# Altium footprint library RES_1M_0603.PcbLib: 1 footprints
Each footprint in its own frame and in the unit in brackets; x right, y up, seen from the top. Pads: shape width x height; smd on the part's side, far side on the other; paste and mask are expansions set on the pad; w line width, h text height; cw(c..) or ccw(c..) is an arc to the next point about the centre after c.
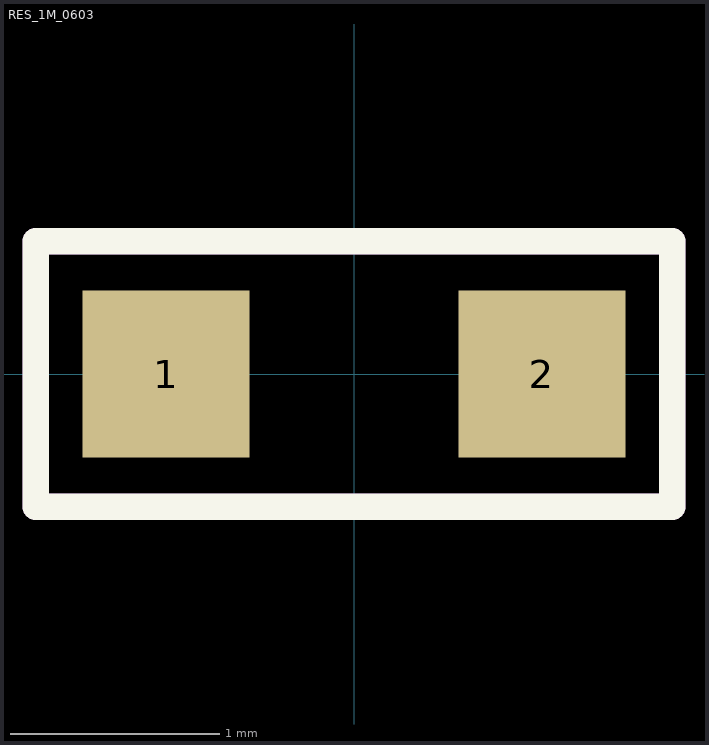
[diagram p0: the footprint, top view; thin cyan lines are the x and y axes]

## RES_1M_0603 [mm]
pads (2):
  rect 0.8x0.8 smd: 1(-0.9,0) 2(0.9,0)
Top Overlay:
  lines w0.127: -1.524,-0.635 1.524,-0.635 1.524,0.635 -1.524,0.635 -1.524,-0.635
Mechanical 1:
  lines w0.127: -1.524,-0.635 1.524,-0.635 1.524,0.635 -1.524,0.635 -1.524,-0.635
  text ".designator" at -1.513,-0.254 h0.64
3D body "RES_1M_0603.STEP": height 0.55, standoff 0, extent -0.8,-0.4 0.8,0.4